# Altium footprint library TLP7930.PcbLib: 1 footprints
Each footprint in its own frame and in the unit in brackets; x right, y up, seen from the top. Pads: shape width x height; smd on the part's side, far side on the other; paste and mask are expansions set on the pad; w line width, h text height; cw(c..) or ccw(c..) is an arc to the next point about the centre after c.
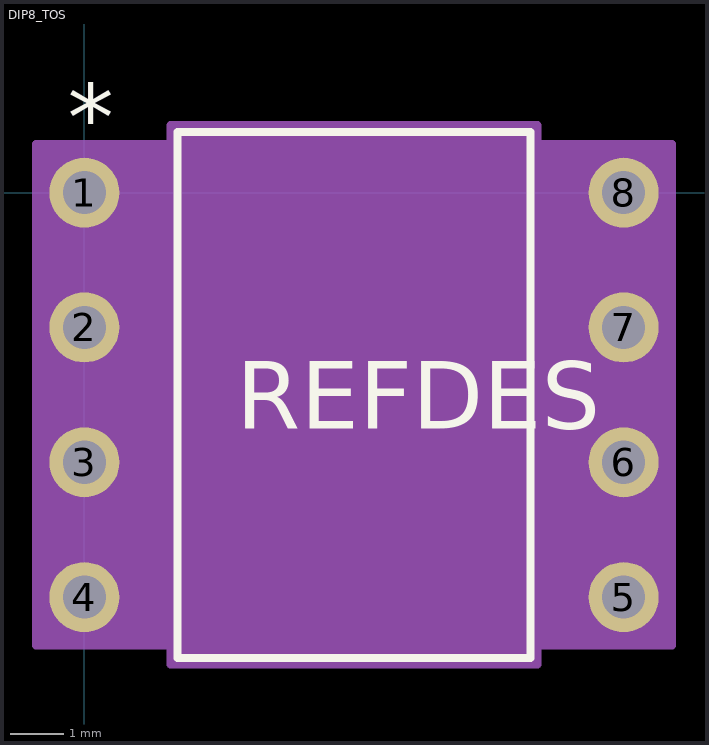
[diagram p0: the footprint, top view; thin cyan lines are the x and y axes]

## DIP8_TOS [mil]
pads (8):
  round 52 / inner round 60 / far side round 52 hole 32 paste-26 mask+0: 1(0,0) 2(0,-100) 3(0,-200) 4(0,-300) 5(400,-300) 6(400,-200) 7(400,-100) 8(400,0)
Top Overlay:
  lines w6: 69,-345 331,-345 331,45 69,45 69,-345
  text "*" at -12.5,31 h50
  text "REFDES" at 112.5,-175 h50
Mechanical 13:
  lines w0: 188,40 ccw(c200,40) 212,40
  lines w1: -16,-316 -16,-284 74,-284 74,-316 -16,-316 ; -16,-216 -16,-184 74,-184 74,-216 -16,-216 ; -16,-116 -16,-84 74,-84 74,-116 -16,-116 ; -16,-16 -16,16 74,16 74,-16 -16,-16 ; 74,-340 326,-340 326,40 74,40 74,-340 ; 326,-316 326,-284 416,-284 416,-316 326,-316 ; 326,-216 326,-184 416,-184 416,-216 326,-216 ; 326,-116 326,-84 416,-84 416,-116 326,-116 ; 326,-16 326,16 416,16 416,-16 326,-16
  text "*" at 71.5,-25 h50
  text "RefDes2" at 112.5,-175 h50
Mechanical 15:
  region: 336,-336 436,-336 436,36 336,36 336,50 64,50 64,36 -36,36 -36,-336 64,-336 64,-350 336,-350
  lines w6: -36,-336 -36,36 64,36 64,50 336,50 336,36 436,36 436,-336 336,-336 336,-350 64,-350 64,-336 -36,-336
3D body "DIP8_90deg.stp": height 175.08, standoff -98.55, extent -18.79,-30.65 318.79,349.67